# EAGLE library part ATOM_LEAF_MOUNT (library icnh3)
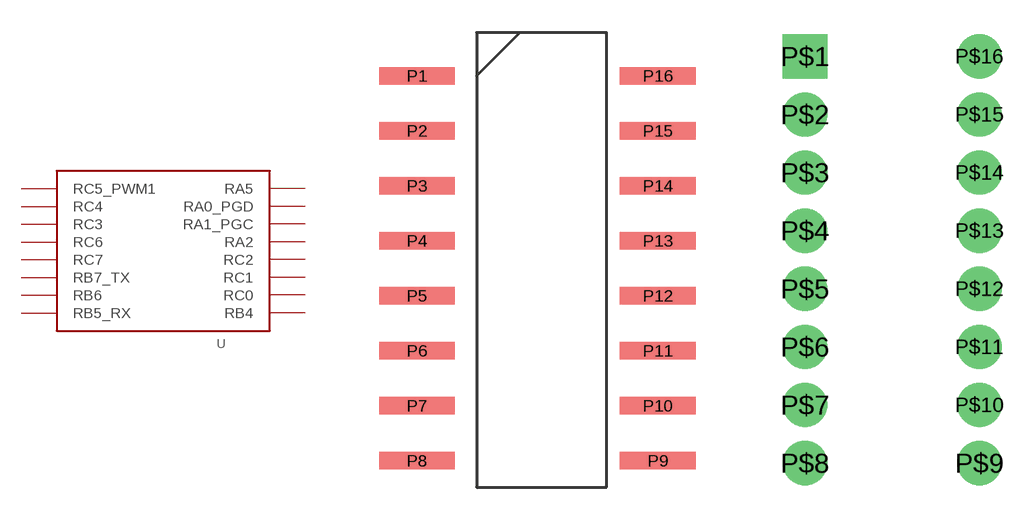
[diagram p17: symbol with the pads of AT_DIP16_LAND_LEAF; footprints AT_DIP16_LAND_LEAF, DIP16]

Designator prefix -

## ATOM_LEAF_MOUNT  [AT_DIP16_LAND_LEAF]
P1  RC5_PWM1
P2  RC4
P3  RC3
P4  RC6
P5  RC7
P6  RB7_TX
P7  RB6
P8  RB5_RX
P9  RB4
P10  RC0
P11  RC1
P12  RC2
P13  RA2
P14  RA1_PGC
P15  RA0_PGD
P16  RA5

## ATOM_LEAF_MOUNTHOLEYDIP  [DIP16]
P$1  RC5_PWM1
P$2  RC4
P$3  RC3
P$4  RC6
P$5  RC7
P$6  RB7_TX
P$7  RB6
P$8  RB5_RX
P$9  RB4
P$10  RC0
P$11  RC1
P$12  RC2
P$13  RA2
P$14  RA1_PGC
P$15  RA0_PGD
P$16  RA5

## Footprint AT_DIP16_LAND_LEAF (pad centres in mm)
smd 3.5 x 0.8: P1 -1.75,0; P2 -1.75,-2.54; P3 -1.75,-5.08; P4 -1.75,-7.62; P5 -1.75,-10.16; P6 -1.75,-12.7; P7 -1.75,-15.24; P8 -1.75,-17.78; P9 9.37,-17.78; P10 9.37,-15.24; P11 9.37,-12.7; P12 9.37,-10.16; P13 9.37,-7.62; P14 9.37,-5.08; P15 9.37,-2.54; P16 9.37,0

## Footprint DIP16 (pad centres in mm)
drill 1.1 pad 1.93 square: P$1 0,0
drill 1.1 pad 1.93: P$2 0,-2.54; P$3 0,-5.08; P$4 0,-7.62; P$5 0,-10.16; P$6 0,-12.7; P$7 0,-15.24; P$8 0,-17.78; P$9 7.62,-17.78; P$10 7.62,-15.24; P$11 7.62,-12.7; P$12 7.62,-10.16; P$13 7.62,-7.62; P$14 7.62,-5.08; P$15 7.62,-2.54; P$16 7.62,0